# Altium schematic symbol library OscillatorsG.SchLib: 3 symbols
Pins are listed as number, name and electrical type; pins without a type are passive.

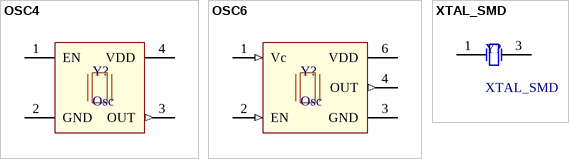
[diagram p0: symbols OSC4 to XTAL_SMD]

## OSC4
designator Y?, comment Osc
4-terminal SMD oscillator
footprint XTAL4-3225
pins: 1 EN, 2 GND (power), 3 OUT (out), 4 VDD (power)

## OSC6
designator Y?, comment Osc
6-terminal SMD oscillator
footprint XTAL5234-6
pins: 1 Vc (in), 2 EN (in), 3 GND, 4 OUT (out), 6 VDD

## XTAL_SMD
designator Y?
SMD Crystal Oscillator
simulation model XTAL (Spice Subcircuit)
footprint XTAL4-3225
pins: 1 OSC1, 3 OSC2